# Altium schematic symbol library TOSLINK_GQ-04-RX.SchLib: 1 symbol
Pins are listed as number, name and electrical type; pins without a type are passive.

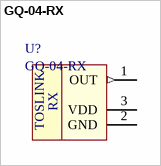
[diagram p0: symbol GQ-04-RX]

## GQ-04-RX
designator U?
footprint GQ-04 (Footprint not found)
footprint TORX147 (Footprint not found)
pins: 1 OUT (out), 2 GND (power), 3 VDD (power)
text: RX; TOSLINK